# EAGLE library part LM75B?* (library MasterPhonebot)
LM75B Description The LM75B is a temperature-to-digital converter using an on-chip band gap temperature sensor and Sigma-Delta A-to-D conversion technique with an overtemperature detection output. The LM75B contains a number of data registers: Configuration register (Conf) to store the device settings such as device operation mode, OS operation mode, OS polarity and OS fault queue; temperature register (Temp) to store the digital temp reading, and set-point registers (Tos and Thyst) to store programmable overtemperature shutdown and hysteresis limits, that can be communicated by a controller via the 2-wire serial I²C-bus interface. The device also includes an open-drain output (OS) which becomes active when the temperature exceeds the programmed limits. There are three selectable logic address pins so that eight devices can be connected on the same bus without address conflict. The LM75B can be configured for different operation conditions. It can be set in normal mode to periodically monitor the ambient temperature, or in shutdown mode to minimize power consumption. The OS output operates in either of two selectable modes: OS comparator mode or OS interrupt mode. Its active state can be selected as either HIGH or LOW. The fault queue that defines the number of consecutive faults in order to activate the OS output is programmable as well as the set-point limits. The temperature register always stores an 11-bit two’s complement data giving a temperature resolution of 0.125 °C. This high temperature resolution is particularly useful in applications of measuring precisely the thermal drift or runaway. When the LM75B is accessed the conversion in process is not interrupted (that is, the I²C-bus section is totally independent of the Sigma-Delta converter section) and accessing the LM75B continuously without waiting at least one conversion time between communications will not prevent the device from updating the Temp register with a new conversion result. The new conversion result will be available immediately after the Temp register is updated. The LM75B powers up in the normal operation mode with the OS in comparator mode, temperature threshold of 80 °C and hysteresis of 75 °C, so that it can be used as a stand-alone thermostat with those pre-defined temperature set points. Features Pin-for-pin replacement for industry standard LM75 and LM75A and offers improved temperature resolution of 0.125 °C and specification of a single part over power supply range from 2.8 V to 5.5 V I²C-bus interface with up to 8 devices on the same bus Power supply range from 2.8 V to 5.5 V Temperatures range from -55 °C to +125 °C Frequency range 20 Hz to 400 kHz with bus fault time-out to prevent hanging up the bus 11-bit ADC that offers a temperature resolution of 0.125 °C Temperature accuracy of: ±2 °C from -25 °C to +100 °C ±3 °C from -55 °C to +125 °C Programmable temperature threshold and hysteresis set points Supply current of 1.0 uA in shutdown mode for power conservation Stand-alone operation as thermostat at power-up ESD protection exceeds 4500 V HBM per JESD22-A114 and 1000 V CDM per JESD22-C101 Latch-up testing is done to JEDEC Standard JESD78 which exceeds 100 mA Small 8-pin package types: SO8, TSSOP8, 3 mm x 2 mm XSON8U, and 2 mm x 3 mm HWSON8 Details see: Datasheet <http://www.nxp.com/documents/data_sheet/LM75B.pdf> More infos: www.nxp.com <http://www.nxp.com/products/interface_and_connectivity/i2c/i2c_temperature_voltage_monitors/LM75BDP.html> Created: L.Lischke 2015-04-05 (c) KK-Prime Engineering GmbH
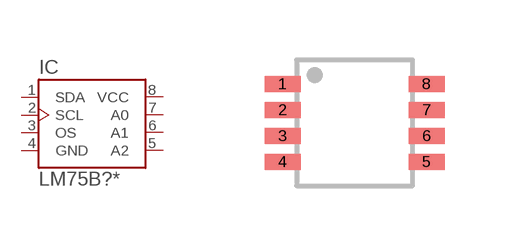
[diagram p21: symbol with the pads of SOP65P400X130-8L; footprint SOP65P400X130-8L]

Designator prefix IC

## LM75BDP,118  [SOP65P400X130-8L]
1  SDA
2  SCL  in
3  OS  out
4  GND  pwr
5  A2  pas
6  A1  pas
7  A0  pas
8  VCC  pwr

## Footprint SOP65P400X130-8L (pad centres in mm)
SSOP-8 Package: R-PDSO-G8 IPC: SOP65P400X130-8L Created: L.Lischke 2015-03-21 (c) KK-Prime Engineering GmbH
smd 0.9 x 0.4: 1 -1.8,0.975; 2 -1.8,0.325; 3 -1.8,-0.325; 4 -1.8,-0.975; 5 1.8,-0.975; 6 1.8,-0.325; 7 1.8,0.325; 8 1.8,0.975